# Altium footprint library WE-SHC.PcbLib: 139 footprints (part 1 of 10)
Each footprint in its own frame and in the unit in brackets; x right, y up, seen from the top. Pads: shape width x height; smd on the part's side, far side on the other; paste and mask are expansions set on the pad; w line width, h text height; cw(c..) or ccw(c..) is an arc to the next point about the centre after c.
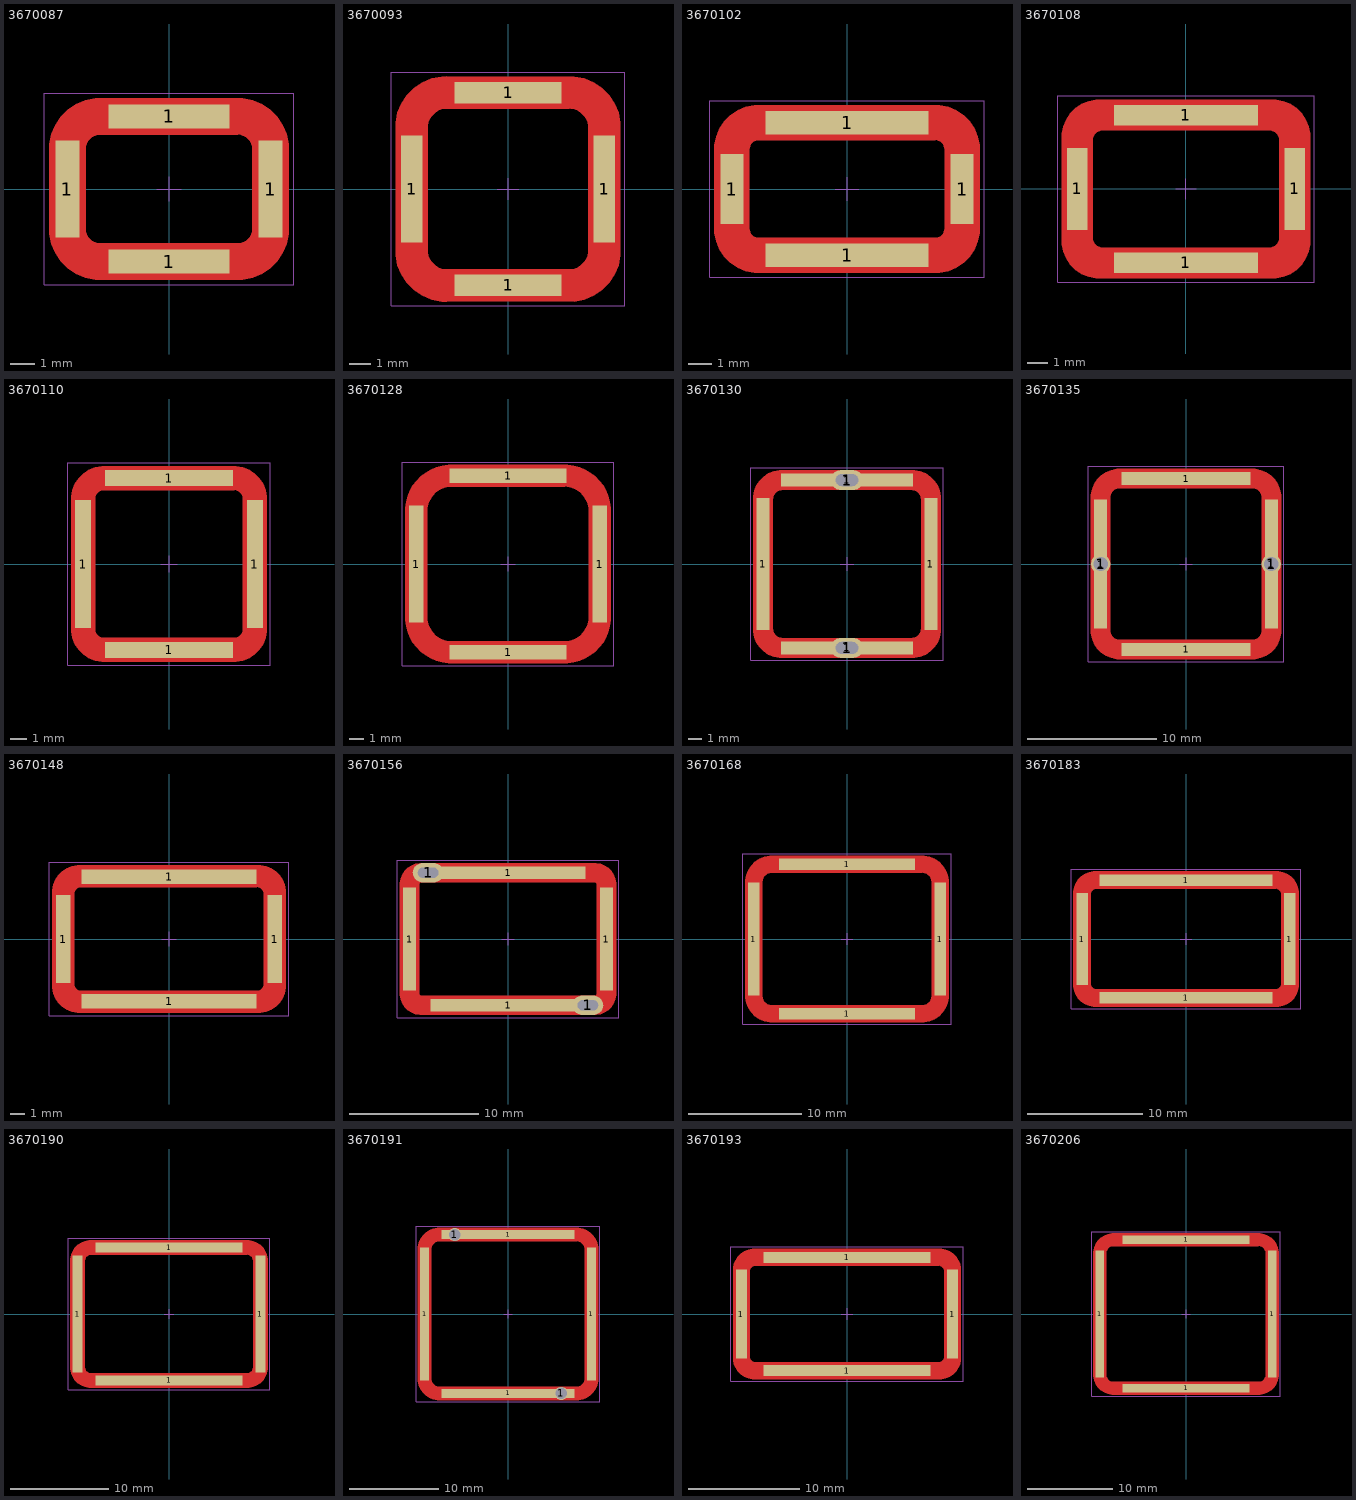
[diagram p0: the footprints below, top view; thin cyan lines are the x and y axes]

## 3670087 [mm] "Shielding Cabinet, SMT Frame Seamless, 8.7x6.3x3mm"
height 3
pads (4):
  rect 1x4 smd paste-2539.97 mask-2222: 1(-4.2,0) 1(4.2,0)
  rect 5x1 smd paste-2539.97 mask-2222: 1(0,-3) 1(0,3)
Top Layer:
  region: -4.95,-0.25 -4.95,-1.65 -4.95,-1.857 -4.869,-2.263 -4.711,-2.645 -4.481,-2.989 -4.189,-3.281 -3.845,-3.511 -3.463,-3.669 -3.057,-3.75 -2.85,-3.75 2.85,-3.75 3.057,-3.75 3.463,-3.669 3.845,-3.511 4.189,-3.281 4.481,-2.989 4.711,-2.645 4.869,-2.263 4.95,-1.857 4.95,-1.65 4.95,-0.25 3.45,-0.25 3.45,-1.65 3.438,-1.767 3.349,-1.983 3.183,-2.149 2.967,-2.238 2.85,-2.25 -2.85,-2.25 -2.967,-2.238 -3.183,-2.149 -3.349,-1.983 -3.438,-1.767 -3.45,-1.65 -3.45,-0.25
  region: -4.95,-1 -4.95,1.65 -4.95,1.857 -4.869,2.263 -4.711,2.645 -4.481,2.989 -4.189,3.281 -3.845,3.511 -3.463,3.669 -3.057,3.75 -2.85,3.75 2.85,3.75 3.057,3.75 3.463,3.669 3.845,3.511 4.189,3.281 4.481,2.989 4.711,2.645 4.869,2.263 4.95,1.857 4.95,1.65 4.95,-1 3.45,-1 3.45,1.65 3.438,1.767 3.349,1.983 3.183,2.149 2.967,2.238 2.85,2.25 -2.85,2.25 -2.967,2.238 -3.183,2.149 -3.349,1.983 -3.438,1.767 -3.45,1.65 -3.45,-1
Top Paste:
  region: -4.95,0.25 -4.95,1.65 -4.95,1.857 -4.869,2.263 -4.711,2.645 -4.481,2.989 -4.189,3.281 -3.845,3.511 -3.463,3.669 -3.057,3.75 -2.85,3.75 2.85,3.75 3.057,3.75 3.463,3.669 3.845,3.511 4.189,3.281 4.481,2.989 4.711,2.645 4.869,2.263 4.95,1.857 4.95,1.65 4.95,0.25 3.45,0.25 3.45,1.65 3.438,1.767 3.349,1.983 3.183,2.149 2.967,2.238 2.85,2.25 -2.85,2.25 -2.967,2.238 -3.183,2.149 -3.349,1.983 -3.438,1.767 -3.45,1.65 -3.45,0.25
  region: -4.95,-0.25 -4.95,-1.65 -4.95,-1.857 -4.869,-2.263 -4.711,-2.645 -4.481,-2.989 -4.189,-3.281 -3.845,-3.511 -3.463,-3.669 -3.057,-3.75 -2.85,-3.75 2.85,-3.75 3.057,-3.75 3.463,-3.669 3.845,-3.511 4.189,-3.281 4.481,-2.989 4.711,-2.645 4.869,-2.263 4.95,-1.857 4.95,-1.65 4.95,-0.25 3.45,-0.25 3.45,-1.65 3.438,-1.767 3.349,-1.983 3.183,-2.149 2.967,-2.238 2.85,-2.25 -2.85,-2.25 -2.967,-2.238 -3.183,-2.149 -3.349,-1.983 -3.438,-1.767 -3.45,-1.65 -3.45,-0.25
Assembly Notes:
  text "recommended tin paste thickness=0.5mm / customer to define the final stencil gap" at -4.45,-5.25 h0.3
Top Component Outline:
  lines w0.1: -4.35,-1.65 ccw(c-2.85,-1.65) -2.85,-3.15 2.85,-3.15 ccw(c2.85,-1.65) 4.35,-1.65 4.35,1.65 ccw(c2.85,1.65) 2.85,3.15 -2.85,3.15 ccw(c-2.85,1.65) -4.35,1.65 -4.35,-1.65
Top 3D Body:
  lines w0.1: -4.35,-1.65 ccw(c-2.85,-1.65) -2.85,-3.15 2.85,-3.15 ccw(c2.85,-1.65) 4.35,-1.65 4.35,1.65 ccw(c2.85,1.65) 2.85,3.15 -2.85,3.15 ccw(c-2.85,1.65) -4.35,1.65 -4.35,-1.65
Top Courtyard:
  lines w0.05: -5.15,-3.95 5.15,-3.95 5.15,3.95 -5.15,3.95 -5.15,-3.95
Top Component Center:
  lines w0.05: -0.5,0 0.5,0 ; 0,-0.5 0,0.5
Top Designator (Mech19):
  text ".Designator" at -7.498,-0.5 h1.5
3D body "3670087.stp": height 3, standoff 0, extent -4.35,-3.15 4.35,3.15

## 3670093 [mm] "Shielding Cabinet, SMT Frame Seamless, 9.3x9.3x5mm"
height 5
pads (4):
  rect 1x5 smd paste-2539.97 mask-2222: 1(-4.5,0) 1(4.5,0)
  rect 5x1 smd paste-2539.97 mask-2222: 1(0,-4.5) 1(0,4.5)
Top Layer:
  region: -5.25,-1 -5.25,2.85 -5.25,3.086 -5.158,3.55 -4.977,3.987 -4.714,4.38 -4.38,4.714 -3.987,4.977 -3.55,5.158 -3.086,5.25 -2.85,5.25 2.85,5.25 3.086,5.25 3.55,5.158 3.987,4.977 4.38,4.714 4.714,4.38 4.977,3.987 5.158,3.55 5.25,3.086 5.25,2.85 5.25,-1 3.75,-1 3.75,2.85 3.746,2.938 3.711,3.111 3.644,3.274 3.546,3.421 3.421,3.546 3.274,3.644 3.111,3.711 2.938,3.746 2.85,3.75 -2.85,3.75 -2.938,3.746 -3.111,3.711 -3.274,3.644 -3.421,3.546 -3.546,3.421 -3.644,3.274 -3.711,3.111 -3.746,2.938 -3.75,2.85 -3.75,-1
  region: -5.25,-0.25 -5.25,-2.85 -5.25,-3.086 -5.158,-3.55 -4.977,-3.987 -4.714,-4.38 -4.38,-4.714 -3.987,-4.977 -3.55,-5.158 -3.086,-5.25 -2.85,-5.25 2.85,-5.25 3.086,-5.25 3.55,-5.158 3.987,-4.977 4.38,-4.714 4.714,-4.38 4.977,-3.987 5.158,-3.55 5.25,-3.086 5.25,-2.85 5.25,-0.25 3.75,-0.25 3.75,-2.85 3.746,-2.938 3.711,-3.111 3.644,-3.274 3.546,-3.421 3.421,-3.546 3.274,-3.644 3.111,-3.711 2.938,-3.746 2.85,-3.75 -2.85,-3.75 -2.938,-3.746 -3.111,-3.711 -3.274,-3.644 -3.421,-3.546 -3.546,-3.421 -3.644,-3.274 -3.711,-3.111 -3.746,-2.938 -3.75,-2.85 -3.75,-0.25
Top Paste:
  region: -5.25,-0.25 -5.25,-2.85 -5.25,-3.086 -5.158,-3.55 -4.977,-3.987 -4.714,-4.38 -4.38,-4.714 -3.987,-4.977 -3.55,-5.158 -3.086,-5.25 -2.85,-5.25 2.85,-5.25 3.086,-5.25 3.55,-5.158 3.987,-4.977 4.38,-4.714 4.714,-4.38 4.977,-3.987 5.158,-3.55 5.25,-3.086 5.25,-2.85 5.25,-0.25 3.75,-0.25 3.75,-2.85 3.746,-2.938 3.711,-3.111 3.644,-3.274 3.546,-3.421 3.421,-3.546 3.274,-3.644 3.111,-3.711 2.938,-3.746 2.85,-3.75 -2.85,-3.75 -2.938,-3.746 -3.111,-3.711 -3.274,-3.644 -3.421,-3.546 -3.546,-3.421 -3.644,-3.274 -3.711,-3.111 -3.746,-2.938 -3.75,-2.85 -3.75,-0.25
  region: -5.25,0.25 -5.25,2.85 -5.25,3.086 -5.158,3.55 -4.977,3.987 -4.714,4.38 -4.38,4.714 -3.987,4.977 -3.55,5.158 -3.086,5.25 -2.85,5.25 2.85,5.25 3.086,5.25 3.55,5.158 3.987,4.977 4.38,4.714 4.714,4.38 4.977,3.987 5.158,3.55 5.25,3.086 5.25,2.85 5.25,0.25 3.75,0.25 3.75,2.85 3.746,2.938 3.711,3.111 3.644,3.274 3.546,3.421 3.421,3.546 3.274,3.644 3.111,3.711 2.938,3.746 2.85,3.75 -2.85,3.75 -2.938,3.746 -3.111,3.711 -3.274,3.644 -3.421,3.546 -3.546,3.421 -3.644,3.274 -3.711,3.111 -3.746,2.938 -3.75,2.85 -3.75,0.25
Assembly Notes:
  text "recommended tin paste thickness=0.5mm / customer to define the final stencil gap" at -4.75,-6.65 h0.3
Top Component Outline:
  lines w0.1: -4.65,-2.9 ccw(c-2.9,-2.9) -2.9,-4.65 2.9,-4.65 ccw(c2.9,-2.9) 4.65,-2.9 4.65,2.9 ccw(c2.9,2.9) 2.9,4.65 -2.9,4.65 ccw(c-2.9,2.9) -4.65,2.9 -4.65,-2.9
Top 3D Body:
  lines w0.1: -4.65,-2.9 ccw(c-2.9,-2.9) -2.9,-4.65 2.9,-4.65 ccw(c2.9,-2.9) 4.65,-2.9 4.65,2.9 ccw(c2.9,2.9) 2.9,4.65 -2.9,4.65 ccw(c-2.9,2.9) -4.65,2.9 -4.65,-2.9
Top Courtyard:
  lines w0.05: -5.45,-5.45 5.45,-5.45 5.45,5.45 -5.45,5.45 -5.45,-5.45
Top Component Center:
  lines w0.05: -0.5,0 0.5,0 ; 0,-0.5 0,0.5
Top Designator (Mech19):
  text ".Designator" at -7.498,-0.5 h1.5
3D body "3670093.stp": height 5, standoff 0, extent -4.65,-4.65 4.65,4.65

## 3670102 [mm] "Shielding Cabinet, SMT Frame Seamless, 10.2x6x3mm"
height 3
pads (4):
  rect 1x3 smd paste-2539.97 mask-2222: 1(-4.95,0) 1(4.95,0)
  rect 7x1 smd paste-2539.97 mask-2222: 1(0,-2.85) 1(0,2.85)
Top Layer:
  region: -5.7,-1 -5.7,1.7 -5.7,1.887 -5.627,2.254 -5.484,2.6 -5.276,2.911 -5.011,3.176 -4.7,3.384 -4.354,3.527 -3.987,3.6 -3.8,3.6 3.8,3.6 3.987,3.6 4.354,3.527 4.7,3.384 5.011,3.176 5.276,2.911 5.484,2.6 5.627,2.254 5.7,1.887 5.7,1.7 5.7,-1 4.2,-1 4.2,1.7 4.192,1.778 4.133,1.922 4.022,2.033 3.878,2.092 3.8,2.1 -3.8,2.1 -3.878,2.092 -4.022,2.033 -4.133,1.922 -4.192,1.778 -4.2,1.7 -4.2,-1
  region: -5.7,-0.25 -5.7,-1.7 -5.7,-1.887 -5.627,-2.254 -5.484,-2.6 -5.276,-2.911 -5.011,-3.176 -4.7,-3.384 -4.354,-3.527 -3.987,-3.6 -3.8,-3.6 3.8,-3.6 3.987,-3.6 4.354,-3.527 4.7,-3.384 5.011,-3.176 5.276,-2.911 5.484,-2.6 5.627,-2.254 5.7,-1.887 5.7,-1.7 5.7,-0.25 4.2,-0.25 4.2,-1.7 4.192,-1.778 4.133,-1.922 4.022,-2.033 3.878,-2.092 3.8,-2.1 -3.8,-2.1 -3.878,-2.092 -4.022,-2.033 -4.133,-1.922 -4.192,-1.778 -4.2,-1.7 -4.2,-0.25
Top Paste:
  region: -5.7,-0.25 -5.7,-1.7 -5.7,-1.887 -5.627,-2.254 -5.484,-2.6 -5.276,-2.911 -5.011,-3.176 -4.7,-3.384 -4.354,-3.527 -3.987,-3.6 -3.8,-3.6 3.8,-3.6 3.987,-3.6 4.354,-3.527 4.7,-3.384 5.011,-3.176 5.276,-2.911 5.484,-2.6 5.627,-2.254 5.7,-1.887 5.7,-1.7 5.7,-0.25 4.2,-0.25 4.2,-1.7 4.192,-1.778 4.133,-1.922 4.022,-2.033 3.878,-2.092 3.8,-2.1 -3.8,-2.1 -3.878,-2.092 -4.022,-2.033 -4.133,-1.922 -4.192,-1.778 -4.2,-1.7 -4.2,-0.25
  region: -5.7,0.25 -5.7,1.7 -5.7,1.887 -5.627,2.254 -5.484,2.6 -5.276,2.911 -5.011,3.176 -4.7,3.384 -4.354,3.527 -3.987,3.6 -3.8,3.6 3.8,3.6 3.987,3.6 4.354,3.527 4.7,3.384 5.011,3.176 5.276,2.911 5.484,2.6 5.627,2.254 5.7,1.887 5.7,1.7 5.7,0.25 4.2,0.25 4.2,1.7 4.192,1.778 4.133,1.922 4.022,2.033 3.878,2.092 3.8,2.1 -3.8,2.1 -3.878,2.092 -4.022,2.033 -4.133,1.922 -4.192,1.778 -4.2,1.7 -4.2,0.25
Assembly Notes:
  text "recommended tin paste thickness=0.1mm / customer to define the final stencil gap" at -5.9,-5.3 h0.4
Top Component Outline:
  lines w0.1: -5.1,-1.75 ccw(c-3.85,-1.75) -3.85,-3 3.85,-3 ccw(c3.85,-1.75) 5.1,-1.75 5.1,1.75 ccw(c3.85,1.75) 3.85,3 -3.85,3 ccw(c-3.85,1.75) -5.1,1.75 -5.1,-1.75
Top 3D Body:
  lines w0.1: -5.1,-1.75 ccw(c-3.85,-1.75) -3.85,-3 3.85,-3 ccw(c3.85,-1.75) 5.1,-1.75 5.1,1.75 ccw(c3.85,1.75) 3.85,3 -3.85,3 ccw(c-3.85,1.75) -5.1,1.75 -5.1,-1.75
Top Courtyard:
  lines w0.05: -5.9,-3.8 5.9,-3.8 5.9,3.8 -5.9,3.8 -5.9,-3.8
Top Component Center:
  lines w0.05: -0.5,0 0.5,0 ; 0,-0.5 0,0.5
Top Designator (Mech19):
  text ".Designator" at -7.498,-0.5 h1.5
3D body "3670102.stp": height 3, standoff 0, extent -5.1,-3 5.1,3

## 3670108 [mm] "Shielding Cabinet, SMT Frame Seamless, 10.8x7.4x2mm"
height 2
pads (4):
  rect 1x4 smd paste-2539.97 mask-2222: 1(-5.3,0) 1(5.3,0)
  rect 7x1 smd paste-2539.97 mask-2222: 1(0,-3.6) 1(0,3.6)
Top Layer:
  region: -6.05,-0.25 -6.05,-2.5 -6.05,-2.682 -5.979,-3.04 -5.839,-3.376 -5.637,-3.679 -5.379,-3.937 -5.076,-4.139 -4.74,-4.279 -4.382,-4.35 -4.2,-4.35 4.2,-4.35 4.382,-4.35 4.74,-4.279 5.076,-4.139 5.379,-3.937 5.637,-3.679 5.839,-3.376 5.979,-3.04 6.05,-2.682 6.05,-2.5 6.05,-0.25 4.55,-0.25 4.55,-2.387 4.541,-2.478 4.472,-2.644 4.344,-2.772 4.178,-2.841 4.088,-2.85 -4.088,-2.85 -4.178,-2.841 -4.344,-2.772 -4.472,-2.644 -4.541,-2.478 -4.55,-2.387 -4.55,-0.25
  region: -6.05,-0.925 -6.05,2.5 -6.05,2.682 -5.979,3.04 -5.839,3.376 -5.637,3.679 -5.379,3.937 -5.076,4.139 -4.74,4.279 -4.382,4.35 -4.2,4.35 4.2,4.35 4.382,4.35 4.74,4.279 5.076,4.139 5.379,3.937 5.637,3.679 5.839,3.376 5.979,3.04 6.05,2.682 6.05,2.5 6.05,-0.925 4.55,-0.925 4.55,2.387 4.541,2.478 4.472,2.644 4.344,2.772 4.178,2.841 4.088,2.85 -4.088,2.85 -4.178,2.841 -4.344,2.772 -4.472,2.644 -4.541,2.478 -4.55,2.387 -4.55,-0.925
Top Paste:
  region: -6.05,0.25 -6.05,2.5 -6.05,2.682 -5.979,3.04 -5.839,3.376 -5.637,3.679 -5.379,3.937 -5.076,4.139 -4.74,4.279 -4.382,4.35 -4.2,4.35 4.2,4.35 4.382,4.35 4.74,4.279 5.076,4.139 5.379,3.937 5.637,3.679 5.839,3.376 5.979,3.04 6.05,2.682 6.05,2.5 6.05,0.25 4.55,0.25 4.55,2.387 4.541,2.478 4.472,2.644 4.344,2.772 4.178,2.841 4.088,2.85 -4.088,2.85 -4.178,2.841 -4.344,2.772 -4.472,2.644 -4.541,2.478 -4.55,2.387 -4.55,0.25
  region: -6.05,-0.25 -6.05,-2.5 -6.05,-2.682 -5.979,-3.04 -5.839,-3.376 -5.637,-3.679 -5.379,-3.937 -5.076,-4.139 -4.74,-4.279 -4.382,-4.35 -4.2,-4.35 4.2,-4.35 4.382,-4.35 4.74,-4.279 5.076,-4.139 5.379,-3.937 5.637,-3.679 5.839,-3.376 5.979,-3.04 6.05,-2.682 6.05,-2.5 6.05,-0.25 4.55,-0.25 4.55,-2.387 4.541,-2.478 4.472,-2.644 4.344,-2.772 4.178,-2.841 4.088,-2.85 -4.088,-2.85 -4.178,-2.841 -4.344,-2.772 -4.472,-2.644 -4.541,-2.478 -4.55,-2.387 -4.55,-0.25
Assembly Notes:
  text "recommended tin paste thickness=0.5mm / customer to define the final stencil gap" at -6.25,-5.95 h0.4
Top Component Outline:
  lines w0.1: -5.4,-2.45 ccw(c-4.15,-2.45) -4.15,-3.7 4.15,-3.7 ccw(c4.15,-2.45) 5.4,-2.45 5.4,2.45 ccw(c4.15,2.45) 4.15,3.7 -4.15,3.7 ccw(c-4.15,2.45) -5.4,2.45 -5.4,-2.45
Top 3D Body:
  lines w0.1: -5.4,-2.45 ccw(c-4.15,-2.45) -4.15,-3.7 4.15,-3.7 ccw(c4.15,-2.45) 5.4,-2.45 5.4,2.45 ccw(c4.15,2.45) 4.15,3.7 -4.15,3.7 ccw(c-4.15,2.45) -5.4,2.45 -5.4,-2.45
Top Courtyard:
  lines w0.05: -6.25,-4.55 6.25,-4.55 6.25,4.55 -6.25,4.55 -6.25,-4.55
Top Component Center:
  lines w0.05: -0.5,0 0.5,0 ; 0,-0.5 0,0.5
Top Designator (Mech19):
  text ".Designator" at -7.498,-0.5 h1.5
3D body "3670108.stp": height 2, standoff 0, extent -5.4,-3.7 5.4,3.7

## 3670110 [mm] "Shielding Cabinet, SMT Frame Seamless, 11x11x2.8mm"
height 2.8
pads (4):
  rect 1x8 smd paste-2539.97 mask-2222: 1(-5.35,0) 1(5.35,0)
  rect 8x1 smd paste-2539.97 mask-2222: 1(0,-5.35) 1(0,5.35)
Top Layer:
  region: -6.1,-0.25 -6.1,-4 -6.1,-4.207 -6.019,-4.613 -5.861,-4.995 -5.631,-5.339 -5.339,-5.631 -4.995,-5.861 -4.613,-6.019 -4.207,-6.1 -4,-6.1 4,-6.1 4.207,-6.1 4.613,-6.019 4.995,-5.861 5.339,-5.631 5.631,-5.339 5.861,-4.995 6.019,-4.613 6.1,-4.207 6.1,-4 6.1,-0.25 4.6,-0.25 4.6,-4.075 4.59,-4.177 4.512,-4.367 4.367,-4.512 4.177,-4.59 4.075,-4.6 -4.075,-4.6 -4.177,-4.59 -4.367,-4.512 -4.512,-4.367 -4.59,-4.177 -4.6,-4.075 -4.6,-0.25
  region: -6.1,-1.05 -6.1,4 -6.1,4.207 -6.019,4.613 -5.861,4.995 -5.631,5.339 -5.339,5.631 -4.995,5.861 -4.613,6.019 -4.207,6.1 -4,6.1 4,6.1 4.207,6.1 4.613,6.019 4.995,5.861 5.339,5.631 5.631,5.339 5.861,4.995 6.019,4.613 6.1,4.207 6.1,4 6.1,-1.05 4.6,-1.05 4.6,4.075 4.59,4.177 4.512,4.367 4.367,4.512 4.177,4.59 4.075,4.6 -4.075,4.6 -4.177,4.59 -4.367,4.512 -4.512,4.367 -4.59,4.177 -4.6,4.075 -4.6,-1.05
Top Paste:
  region: -6.1,0.25 -6.1,4 -6.1,4.207 -6.019,4.613 -5.861,4.995 -5.631,5.339 -5.339,5.631 -4.995,5.861 -4.613,6.019 -4.207,6.1 -4,6.1 4,6.1 4.207,6.1 4.613,6.019 4.995,5.861 5.339,5.631 5.631,5.339 5.861,4.995 6.019,4.613 6.1,4.207 6.1,4 6.1,0.25 4.6,0.25 4.6,4.075 4.59,4.177 4.512,4.367 4.367,4.512 4.177,4.59 4.075,4.6 -4.075,4.6 -4.177,4.59 -4.367,4.512 -4.512,4.367 -4.59,4.177 -4.6,4.075 -4.6,0.25
  region: -6.1,-0.25 -6.1,-4 -6.1,-4.207 -6.019,-4.613 -5.861,-4.995 -5.631,-5.339 -5.339,-5.631 -4.995,-5.861 -4.613,-6.019 -4.207,-6.1 -4,-6.1 4,-6.1 4.207,-6.1 4.613,-6.019 4.995,-5.861 5.339,-5.631 5.631,-5.339 5.861,-4.995 6.019,-4.613 6.1,-4.207 6.1,-4 6.1,-0.25 4.6,-0.25 4.6,-4.075 4.59,-4.177 4.512,-4.367 4.367,-4.512 4.177,-4.59 4.075,-4.6 -4.075,-4.6 -4.177,-4.59 -4.367,-4.512 -4.512,-4.367 -4.59,-4.177 -4.6,-4.075 -4.6,-0.25
Assembly Notes:
  text "recommended tin paste thickness=0.5mm / customer to define the final stencil gap" at -6.3,-7.7 h0.4
Top Component Outline:
  lines w0.1: -5.5,-4 ccw(c-4,-4) -4,-5.5 4,-5.5 ccw(c4,-4) 5.5,-4 5.5,4 ccw(c4,4) 4,5.5 -4,5.5 ccw(c-4,4) -5.5,4 -5.5,-4
Top 3D Body:
  lines w0.1: -5.5,-4 ccw(c-4,-4) -4,-5.5 4,-5.5 ccw(c4,-4) 5.5,-4 5.5,4 ccw(c4,4) 4,5.5 -4,5.5 ccw(c-4,4) -5.5,4 -5.5,-4
Top Courtyard:
  lines w0.05: -6.3,-6.3 6.3,-6.3 6.3,6.3 -6.3,6.3 -6.3,-6.3
Top Component Center:
  lines w0.05: -0.5,0 0.5,0 ; 0,-0.5 0,0.5
Top Designator (Mech19):
  text ".Designator" at -7.498,-0.5 h1.5
3D body "3670110.stp": height 2.8, standoff 0, extent -5.5,-5.5 5.5,5.5

## 3670128 [mm] "Shielding Cabinet, SMT Frame Seamless, 12.8x12.3x7.5mm"
height 7.5
pads (4):
  rect 1x8 smd paste-2539.97 mask-2222: 1(-6.3,0) 1(6.3,0)
  rect 8x1 smd paste-2539.97 mask-2222: 1(0,-6.05) 1(0,6.05)
Top Layer:
  region: -7.05,-0.25 -7.05,-3.65 -7.05,-3.856 -6.996,-4.266 -6.889,-4.665 -6.731,-5.046 -6.525,-5.404 -6.273,-5.731 -5.981,-6.023 -5.654,-6.275 -5.296,-6.481 -4.915,-6.639 -4.516,-6.746 -4.106,-6.8 -3.9,-6.8 3.9,-6.8 4.106,-6.8 4.516,-6.746 4.915,-6.639 5.296,-6.481 5.654,-6.275 5.981,-6.023 6.273,-5.731 6.525,-5.404 6.731,-5.046 6.889,-4.665 6.996,-4.266 7.05,-3.856 7.05,-3.65 7.05,-0.25 5.55,-0.25 5.55,-3.65 5.542,-3.812 5.479,-4.129 5.355,-4.428 5.175,-4.697 4.947,-4.925 4.678,-5.105 4.379,-5.229 4.062,-5.292 3.9,-5.3 -3.9,-5.3 -4.062,-5.292 -4.379,-5.229 -4.678,-5.105 -4.947,-4.925 -5.175,-4.697 -5.355,-4.428 -5.479,-4.129 -5.542,-3.812 -5.55,-3.65 -5.55,-0.25
  region: -7.05,-1 -7.05,3.65 -7.05,3.856 -6.996,4.266 -6.889,4.665 -6.731,5.046 -6.525,5.404 -6.273,5.731 -5.981,6.023 -5.654,6.275 -5.296,6.481 -4.915,6.639 -4.516,6.746 -4.106,6.8 -3.9,6.8 3.9,6.8 4.106,6.8 4.516,6.746 4.915,6.639 5.296,6.481 5.654,6.275 5.981,6.023 6.273,5.731 6.525,5.404 6.731,5.046 6.889,4.665 6.996,4.266 7.05,3.856 7.05,3.65 7.05,-1 5.55,-1 5.55,3.65 5.542,3.812 5.479,4.129 5.355,4.428 5.175,4.697 4.947,4.925 4.678,5.105 4.379,5.229 4.062,5.292 3.9,5.3 -3.9,5.3 -4.062,5.292 -4.379,5.229 -4.678,5.105 -4.947,4.925 -5.175,4.697 -5.355,4.428 -5.479,4.129 -5.542,3.812 -5.55,3.65 -5.55,-1
Top Paste:
  drawing of 3 lines, arcs and shapes, not listed
Assembly Notes:
  text "recommended tin paste thickness=0.1mm / customer to define the final stencil gap" at -6.2,-8.5 h0.4
Top Component Outline:
  lines w0.1: -6.4,-3.9 -6.4,3.65 cw(c-3.9,3.65) -3.9,6.15 3.9,6.15 cw(c3.9,3.65) 6.4,3.65 6.4,-3.9 ; -6.4,-3.65 ccw(c-3.9,-3.65) -3.9,-6.15 3.9,-6.15 ccw(c3.9,-3.65) 6.4,-3.65
Top 3D Body:
  lines w0.1: -6.4,-3.9 -6.4,3.65 cw(c-3.9,3.65) -3.9,6.15 3.9,6.15 cw(c3.9,3.65) 6.4,3.65 6.4,-3.9 ; -6.4,-3.65 ccw(c-3.9,-3.65) -3.9,-6.15 3.9,-6.15 ccw(c3.9,-3.65) 6.4,-3.65
Top Courtyard:
  lines w0.05: -7.25,-7 -7.25,7 7.25,7 7.25,-7 -7.25,-7
Top Component Center:
  lines w0.05: -0.5,0 0.5,0 ; 0,-0.5 0,0.5
Top Designator (Mech19):
  text ".Designator" at -7.498,-0.5 h1.5
3D body "3670128.stp": height 7.5, standoff 0, extent -6.4,-6.15 6.4,6.15

## 3670130 [mm] "Shielding Cabinet, SMT Frame Seamless, 13x13x5mm"
height 5
pads (6):
  rect 1x10 smd paste-2539.97 mask-2222: 1(-6.35,0) 1(6.35,0)
  rect 10x1 smd paste-2539.97 mask-2222: 1(0,-6.35) 1(0,6.35)
  oval 2.5x1.5 hole 0.9 slot 1.7 at 0 deg: 1(0,-6.35) 1(0,6.35)
Top Layer:
  region: -7.1,-0.25 -7.1,-4.9 -7.1,-5.117 -7.015,-5.542 -6.85,-5.942 -6.609,-6.302 -6.302,-6.609 -5.942,-6.85 -5.542,-7.015 -5.117,-7.1 -4.9,-7.1 4.9,-7.1 5.117,-7.1 5.542,-7.015 5.942,-6.85 6.302,-6.609 6.609,-6.302 6.85,-5.942 7.015,-5.542 7.1,-5.117 7.1,-4.9 7.1,-0.25 5.6,-0.25 5.6,-4.9 5.597,-4.969 5.57,-5.103 5.517,-5.23 5.441,-5.344 5.344,-5.441 5.23,-5.517 5.103,-5.57 4.969,-5.597 4.9,-5.6 -4.9,-5.6 -4.969,-5.597 -5.103,-5.57 -5.23,-5.517 -5.344,-5.441 -5.441,-5.344 -5.517,-5.23 -5.57,-5.103 -5.597,-4.969 -5.6,-4.9 -5.6,-0.25
  region: -7.1,-1 -7.1,4.9 -7.1,5.117 -7.015,5.542 -6.85,5.942 -6.609,6.302 -6.302,6.609 -5.942,6.85 -5.542,7.015 -5.117,7.1 -4.9,7.1 4.9,7.1 5.117,7.1 5.542,7.015 5.942,6.85 6.302,6.609 6.609,6.302 6.85,5.942 7.015,5.542 7.1,5.117 7.1,4.9 7.1,-1 5.6,-1 5.6,4.9 5.597,4.969 5.57,5.103 5.517,5.23 5.441,5.344 5.344,5.441 5.23,5.517 5.103,5.57 4.969,5.597 4.9,5.6 -4.9,5.6 -4.969,5.597 -5.103,5.57 -5.23,5.517 -5.344,5.441 -5.441,5.344 -5.517,5.23 -5.57,5.103 -5.597,4.969 -5.6,4.9 -5.6,-1
Top Paste:
  region: -7.1,0.25 -7.1,4.9 -7.1,5.117 -7.015,5.542 -6.85,5.942 -6.609,6.302 -6.302,6.609 -5.942,6.85 -5.542,7.015 -5.117,7.1 -4.9,7.1 4.9,7.1 5.117,7.1 5.542,7.015 5.942,6.85 6.302,6.609 6.609,6.302 6.85,5.942 7.015,5.542 7.1,5.117 7.1,4.9 7.1,0.25 5.6,0.25 5.6,4.9 5.597,4.969 5.57,5.103 5.517,5.23 5.441,5.344 5.344,5.441 5.23,5.517 5.103,5.57 4.969,5.597 4.9,5.6 -4.9,5.6 -4.969,5.597 -5.103,5.57 -5.23,5.517 -5.344,5.441 -5.441,5.344 -5.517,5.23 -5.57,5.103 -5.597,4.969 -5.6,4.9 -5.6,0.25
  region: -7.1,-0.25 -7.1,-4.9 -7.1,-5.117 -7.015,-5.542 -6.85,-5.942 -6.609,-6.302 -6.302,-6.609 -5.942,-6.85 -5.542,-7.015 -5.117,-7.1 -4.9,-7.1 4.9,-7.1 5.117,-7.1 5.542,-7.015 5.942,-6.85 6.302,-6.609 6.609,-6.302 6.85,-5.942 7.015,-5.542 7.1,-5.117 7.1,-4.9 7.1,-0.25 5.6,-0.25 5.6,-4.9 5.597,-4.969 5.57,-5.103 5.517,-5.23 5.441,-5.344 5.344,-5.441 5.23,-5.517 5.103,-5.57 4.969,-5.597 4.9,-5.6 -4.9,-5.6 -4.969,-5.597 -5.103,-5.57 -5.23,-5.517 -5.344,-5.441 -5.441,-5.344 -5.517,-5.23 -5.57,-5.103 -5.597,-4.969 -5.6,-4.9 -5.6,-0.25
Assembly Notes:
  text "recommended tin paste thickness=0.5mm / customer to define the final stencil gap" at -5.9,-8.7 h0.4
Top Component Outline:
  lines w0.1: -6.5,-5 ccw(c-5,-5) -5,-6.5 5,-6.5 ccw(c5,-5) 6.5,-5 6.5,5 ccw(c5,5) 5,6.5 -5,6.5 ccw(c-5,5) -6.5,5 -6.5,-5
Top 3D Body:
  lines w0.1: -6.5,-5 ccw(c-5,-5) -5,-6.5 5,-6.5 ccw(c5,-5) 6.5,-5 6.5,5 ccw(c5,5) 5,6.5 -5,6.5 ccw(c-5,5) -6.5,5 -6.5,-5
Top Courtyard:
  lines w0.05: -7.3,-7.3 7.3,-7.3 7.3,7.3 -7.3,7.3 -7.3,-7.3
Top Component Center:
  lines w0.05: -0.5,0 0.5,0 ; 0,-0.5 0,0.5
Top Designator (Mech19):
  text ".Designator" at -7.498,-0.5 h1.5
3D body "3670130.stp": height 5, standoff -1, extent -6.5,-6.5 6.5,6.5

## 3670135 [mm] "Shielding Cabinet, SMT Frame Seamless, 13.5x13.5x5mm"
height 5
pads (6):
  rect 1x10 smd paste-2539.97 mask-2222: 1(-6.6,0) 1(6.6,0)
  round 1.5 hole 1.1: 1(-6.6,0) 1(6.6,0)
  rect 10x1 smd paste-2539.97 mask-2222: 1(0,-6.6) 1(0,6.6)
Top Layer:
  region: 7.35,-5.15 7.35,5.15 7.35,5.367 7.265,5.792 7.1,6.192 6.859,6.552 6.552,6.859 6.192,7.1 5.792,7.265 5.367,7.35 5.15,7.35 0.25,7.35 0.25,5.85 5.15,5.85 5.219,5.847 5.353,5.82 5.48,5.767 5.594,5.691 5.691,5.594 5.767,5.48 5.82,5.353 5.847,5.219 5.85,5.15 5.85,-5.15 5.847,-5.219 5.82,-5.353 5.767,-5.48 5.691,-5.594 5.594,-5.691 5.48,-5.767 5.353,-5.82 5.219,-5.847 5.15,-5.85 0.25,-5.85 0.25,-7.35 5.15,-7.35 5.367,-7.35 5.792,-7.265 6.192,-7.1 6.552,-6.859 6.859,-6.552 7.1,-6.192 7.265,-5.792 7.35,-5.367
  region: -7.35,-5.15 -7.35,5.15 -7.35,5.367 -7.265,5.792 -7.1,6.192 -6.859,6.552 -6.552,6.859 -6.192,7.1 -5.792,7.265 -5.367,7.35 -5.15,7.35 1,7.35 1,5.85 -5.15,5.85 -5.219,5.847 -5.353,5.82 -5.48,5.767 -5.594,5.691 -5.691,5.594 -5.767,5.48 -5.82,5.353 -5.847,5.219 -5.85,5.15 -5.85,-5.15 -5.847,-5.219 -5.82,-5.353 -5.767,-5.48 -5.691,-5.594 -5.594,-5.691 -5.48,-5.767 -5.353,-5.82 -5.219,-5.847 -5.15,-5.85 1,-5.85 1,-7.35 -5.15,-7.35 -5.367,-7.35 -5.792,-7.265 -6.192,-7.1 -6.552,-6.859 -6.859,-6.552 -7.1,-6.192 -7.265,-5.792 -7.35,-5.367
Top Paste:
  region: -7.35,-5.15 -7.35,5.15 -7.35,5.367 -7.265,5.792 -7.1,6.192 -6.859,6.552 -6.552,6.859 -6.192,7.1 -5.792,7.265 -5.367,7.35 -5.15,7.35 -0.25,7.35 -0.25,5.85 -5.15,5.85 -5.219,5.847 -5.353,5.82 -5.48,5.767 -5.594,5.691 -5.691,5.594 -5.767,5.48 -5.82,5.353 -5.847,5.219 -5.85,5.15 -5.85,-5.15 -5.847,-5.219 -5.82,-5.353 -5.767,-5.48 -5.691,-5.594 -5.594,-5.691 -5.48,-5.767 -5.353,-5.82 -5.219,-5.847 -5.15,-5.85 -0.25,-5.85 -0.25,-7.35 -5.15,-7.35 -5.367,-7.35 -5.792,-7.265 -6.192,-7.1 -6.552,-6.859 -6.859,-6.552 -7.1,-6.192 -7.265,-5.792 -7.35,-5.367
  region: 7.35,-5.15 7.35,5.15 7.35,5.367 7.265,5.792 7.1,6.192 6.859,6.552 6.552,6.859 6.192,7.1 5.792,7.265 5.367,7.35 5.15,7.35 0.25,7.35 0.25,5.85 5.15,5.85 5.219,5.847 5.353,5.82 5.48,5.767 5.594,5.691 5.691,5.594 5.767,5.48 5.82,5.353 5.847,5.219 5.85,5.15 5.85,-5.15 5.847,-5.219 5.82,-5.353 5.767,-5.48 5.691,-5.594 5.594,-5.691 5.48,-5.767 5.353,-5.82 5.219,-5.847 5.15,-5.85 0.25,-5.85 0.25,-7.35 5.15,-7.35 5.367,-7.35 5.792,-7.265 6.192,-7.1 6.552,-6.859 6.859,-6.552 7.1,-6.192 7.265,-5.792 7.35,-5.367
Assembly Notes:
  text "recommended tin paste thickness=0.5mm / customer to define the final stencil gap" at -5.95,-9.05 h0.4
Top Component Outline:
  lines w0.1: -6.75,-5.25 ccw(c-5.25,-5.25) -5.25,-6.75 5.25,-6.75 ccw(c5.25,-5.25) 6.75,-5.25 6.75,5.25 ccw(c5.25,5.25) 5.25,6.75 -5.25,6.75 ccw(c-5.25,5.25) -6.75,5.25 -6.75,-5.25
Top 3D Body:
  lines w0.1: -6.75,-5.25 ccw(c-5.25,-5.25) -5.25,-6.75 5.25,-6.75 ccw(c5.25,-5.25) 6.75,-5.25 6.75,5.25 ccw(c5.25,5.25) 5.25,6.75 -5.25,6.75 ccw(c-5.25,5.25) -6.75,5.25 -6.75,-5.25
Top Courtyard:
  lines w0.05: -7.55,-7.55 -7.55,7.55 7.55,7.55 7.55,-7.55 -7.55,-7.55
Top Component Center:
  lines w0.05: -0.5,0 0.5,0 ; 0,-0.5 0,0.5
Top Designator (Mech19):
  text ".Designator" at -7.498,-0.5 h1.5
3D body "3670135.stp": height 5, standoff -1, extent -6.75,-6.75 6.75,6.75

## 3670148 [mm] "Shielding Cabinet, SMT Frame Seamless, 14.8x8.9x2mm"
height 2
pads (4):
  rect 1x6 smd paste-2539.97 mask-2222: 1(-7.25,0) 1(7.25,0)
  rect 12x1 smd paste-2539.97 mask-2222: 1(0,-4.275) 1(0,4.275)
Top Layer:
  region: -8,-0.25 -8,-3.15 -8,-3.337 -7.927,-3.704 -7.784,-4.05 -7.576,-4.361 -7.311,-4.626 -7,-4.834 -6.654,-4.977 -6.287,-5.05 -6.1,-5.05 6.1,-5.05 6.287,-5.05 6.654,-4.977 7,-4.834 7.311,-4.626 7.576,-4.361 7.784,-4.05 7.927,-3.704 8,-3.337 8,-3.15 8,-0.25 6.5,-0.25 6.5,-3.075 6.491,-3.168 6.42,-3.339 6.289,-3.47 6.118,-3.541 6.025,-3.55 -6.025,-3.55 -6.118,-3.541 -6.289,-3.47 -6.42,-3.339 -6.491,-3.168 -6.5,-3.075 -6.5,-0.25
  region: -8,-1 -8,3.15 -8,3.337 -7.927,3.704 -7.784,4.05 -7.576,4.361 -7.311,4.626 -7,4.834 -6.654,4.977 -6.287,5.05 -6.1,5.05 6.1,5.05 6.287,5.05 6.654,4.977 7,4.834 7.311,4.626 7.576,4.361 7.784,4.05 7.927,3.704 8,3.337 8,3.15 8,-1 6.5,-1 6.5,3.075 6.491,3.168 6.42,3.339 6.289,3.47 6.118,3.541 6.025,3.55 -6.025,3.55 -6.118,3.541 -6.289,3.47 -6.42,3.339 -6.491,3.168 -6.5,3.075 -6.5,-1
Top Paste:
  region: -8,0.25 -8,3.15 -8,3.337 -7.927,3.704 -7.784,4.05 -7.576,4.361 -7.311,4.626 -7,4.834 -6.654,4.977 -6.287,5.05 -6.1,5.05 6.1,5.05 6.287,5.05 6.654,4.977 7,4.834 7.311,4.626 7.576,4.361 7.784,4.05 7.927,3.704 8,3.337 8,3.15 8,0.25 6.5,0.25 6.5,3.075 6.491,3.168 6.42,3.339 6.289,3.47 6.118,3.541 6.025,3.55 -6.025,3.55 -6.118,3.541 -6.289,3.47 -6.42,3.339 -6.491,3.168 -6.5,3.075 -6.5,0.25
  region: -8,-0.25 -8,-3.15 -8,-3.337 -7.927,-3.704 -7.784,-4.05 -7.576,-4.361 -7.311,-4.626 -7,-4.834 -6.654,-4.977 -6.287,-5.05 -6.1,-5.05 6.1,-5.05 6.287,-5.05 6.654,-4.977 7,-4.834 7.311,-4.626 7.576,-4.361 7.784,-4.05 7.927,-3.704 8,-3.337 8,-3.15 8,-0.25 6.5,-0.25 6.5,-3.075 6.491,-3.168 6.42,-3.339 6.289,-3.47 6.118,-3.541 6.025,-3.55 -6.025,-3.55 -6.118,-3.541 -6.289,-3.47 -6.42,-3.339 -6.491,-3.168 -6.5,-3.075 -6.5,-0.25
Assembly Notes:
  text "recommended tin paste thickness=0.5mm / customer to define the final stencil gap" at -5.7,-6.7 h0.4
Top Component Outline:
  lines w0.1: -7.4,-3.2 ccw(c-6.15,-3.2) -6.15,-4.45 6.15,-4.45 ccw(c6.15,-3.2) 7.4,-3.2 7.4,3.2 ccw(c6.15,3.2) 6.15,4.45 -6.15,4.45 ccw(c-6.15,3.2) -7.4,3.2 -7.4,-3.2
Top 3D Body:
  lines w0.1: -7.4,-3.2 ccw(c-6.15,-3.2) -6.15,-4.45 6.15,-4.45 ccw(c6.15,-3.2) 7.4,-3.2 7.4,3.2 ccw(c6.15,3.2) 6.15,4.45 -6.15,4.45 ccw(c-6.15,3.2) -7.4,3.2 -7.4,-3.2
Top Courtyard:
  lines w0.05: -8.2,-5.25 8.2,-5.25 8.2,5.25 -8.2,5.25 -8.2,-5.25
Top Component Center:
  lines w0.05: -0.5,0 0.5,0 ; 0,-0.5 0,0.5
Top Designator (Mech19):
  text ".Designator" at -7.498,-0.5 h1.5
3D body "3670148.stp": height 2, standoff 0, extent -7.4,-4.45 7.4,4.45

## 3670156 [mm] "Shielding Cabinet, SMT Frame Seamless, 15.6x10.6x3mm"
height 3
pads (6):
  rect 1x8 smd paste-2539.97 mask-2222: 1(-7.65,0) 1(7.65,0)
  oval 2.4x1.5 hole 0.8 slot 1.6 at 0 deg: 1(-6.2,5.15) 1(6.2,-5.15)
  rect 12x1 smd paste-2539.97 mask-2222: 1(0,-5.15) 1(0,5.15)
Top Layer:
  region: -8.4,-1 -8.4,4.2 -8.4,4.367 -8.335,4.696 -8.207,5.005 -8.02,5.284 -7.784,5.52 -7.505,5.707 -7.196,5.835 -6.867,5.9 -6.7,5.9 6.7,5.9 6.867,5.9 7.196,5.835 7.505,5.707 7.784,5.52 8.02,5.284 8.207,5.005 8.335,4.696 8.4,4.367 8.4,4.2 8.4,-1 6.9,-1 6.9,4.2 6.896,4.239 6.866,4.311 6.811,4.366 6.739,4.396 6.7,4.4 -6.7,4.4 -6.739,4.396 -6.811,4.366 -6.866,4.311 -6.896,4.239 -6.9,4.2 -6.9,-1
  region: -8.4,-0.25 -8.4,-4.2 -8.4,-4.367 -8.335,-4.696 -8.207,-5.005 -8.02,-5.284 -7.784,-5.52 -7.505,-5.707 -7.196,-5.835 -6.867,-5.9 -6.7,-5.9 6.7,-5.9 6.867,-5.9 7.196,-5.835 7.505,-5.707 7.784,-5.52 8.02,-5.284 8.207,-5.005 8.335,-4.696 8.4,-4.367 8.4,-4.2 8.4,-0.25 6.9,-0.25 6.9,-4.2 6.896,-4.239 6.866,-4.311 6.811,-4.366 6.739,-4.396 6.7,-4.4 -6.7,-4.4 -6.739,-4.396 -6.811,-4.366 -6.866,-4.311 -6.896,-4.239 -6.9,-4.2 -6.9,-0.25
Top Paste:
  region: -8.4,-0.25 -8.4,-4.2 -8.4,-4.367 -8.335,-4.696 -8.207,-5.005 -8.02,-5.284 -7.784,-5.52 -7.505,-5.707 -7.196,-5.835 -6.867,-5.9 -6.7,-5.9 6.7,-5.9 6.867,-5.9 7.196,-5.835 7.505,-5.707 7.784,-5.52 8.02,-5.284 8.207,-5.005 8.335,-4.696 8.4,-4.367 8.4,-4.2 8.4,-0.25 6.9,-0.25 6.9,-4.2 6.896,-4.239 6.866,-4.311 6.811,-4.366 6.739,-4.396 6.7,-4.4 -6.7,-4.4 -6.739,-4.396 -6.811,-4.366 -6.866,-4.311 -6.896,-4.239 -6.9,-4.2 -6.9,-0.25
  region: -8.4,0.25 -8.4,4.2 -8.4,4.367 -8.335,4.696 -8.207,5.005 -8.02,5.284 -7.784,5.52 -7.505,5.707 -7.196,5.835 -6.867,5.9 -6.7,5.9 6.7,5.9 6.867,5.9 7.196,5.835 7.505,5.707 7.784,5.52 8.02,5.284 8.207,5.005 8.335,4.696 8.4,4.367 8.4,4.2 8.4,0.25 6.9,0.25 6.9,4.2 6.896,4.239 6.866,4.311 6.811,4.366 6.739,4.396 6.7,4.4 -6.7,4.4 -6.739,4.396 -6.811,4.366 -6.866,4.311 -6.896,4.239 -6.9,4.2 -6.9,0.25
Assembly Notes:
  text "recommended tin paste thickness=0.5mm / customer to define the final stencil gap" at -6.05,-7.55 h0.4
Top Component Outline:
  lines w0.1: -7.8,-4.3 ccw(c-6.8,-4.3) -6.8,-5.3 6.8,-5.3 ccw(c6.8,-4.3) 7.8,-4.3 7.8,4.3 ccw(c6.8,4.3) 6.8,5.3 -6.8,5.3 ccw(c-6.8,4.3) -7.8,4.3 -7.8,-4.3
Top 3D Body:
  lines w0.1: -7.8,-4.3 ccw(c-6.8,-4.3) -6.8,-5.3 6.8,-5.3 ccw(c6.8,-4.3) 7.8,-4.3 7.8,4.3 ccw(c6.8,4.3) 6.8,5.3 -6.8,5.3 ccw(c-6.8,4.3) -7.8,4.3 -7.8,-4.3
Top Courtyard:
  lines w0.05: -8.6,-6.1 -8.6,6.1 8.6,6.1 8.6,-6.1 -8.6,-6.1
Top Component Center:
  lines w0.05: -0.5,0 0.5,0 ; 0,-0.5 0,0.5
Top Designator (Mech19):
  text ".Designator" at -7.498,-0.5 h1.5
3D body "3670156.stp": height 3, standoff -1, extent -7.8,-5.3 7.8,5.3

## 3670168 [mm] "Shielding Cabinet, SMT Frame Seamless, 16.8x13.5x5mm"
height 5
pads (4):
  rect 1x10 smd paste-2539.97 mask-2222: 1(-8.25,0) 1(8.25,0)
  rect 12x1 smd paste-2539.97 mask-2222: 1(0,-6.6) 1(0,6.6)
Top Layer:
  region: -9,-0.25 -9,-4.95 -9,-5.186 -8.908,-5.65 -8.727,-6.087 -8.464,-6.48 -8.13,-6.814 -7.737,-7.077 -7.3,-7.258 -6.836,-7.35 -6.6,-7.35 6.6,-7.35 6.836,-7.35 7.3,-7.258 7.737,-7.077 8.13,-6.814 8.464,-6.48 8.727,-6.087 8.908,-5.65 9,-5.186 9,-4.95 9,-0.25 7.5,-0.25 7.5,-4.95 7.496,-5.038 7.461,-5.211 7.394,-5.374 7.296,-5.521 7.171,-5.646 7.024,-5.744 6.861,-5.811 6.688,-5.846 6.6,-5.85 -6.6,-5.85 -6.688,-5.846 -6.861,-5.811 -7.024,-5.744 -7.171,-5.646 -7.296,-5.521 -7.394,-5.374 -7.461,-5.211 -7.496,-5.038 -7.5,-4.95 -7.5,-0.25
  region: -9,-1 -9,4.95 -9,5.186 -8.908,5.65 -8.727,6.087 -8.464,6.48 -8.13,6.814 -7.737,7.077 -7.3,7.258 -6.836,7.35 -6.6,7.35 6.6,7.35 6.836,7.35 7.3,7.258 7.737,7.077 8.13,6.814 8.464,6.48 8.727,6.087 8.908,5.65 9,5.186 9,4.95 9,-1 7.5,-1 7.5,4.95 7.496,5.038 7.461,5.211 7.394,5.374 7.296,5.521 7.171,5.646 7.024,5.744 6.861,5.811 6.688,5.846 6.6,5.85 -6.6,5.85 -6.688,5.846 -6.861,5.811 -7.024,5.744 -7.171,5.646 -7.296,5.521 -7.394,5.374 -7.461,5.211 -7.496,5.038 -7.5,4.95 -7.5,-1
Top Paste:
  region: -9,0.25 -9,4.95 -9,5.186 -8.908,5.65 -8.727,6.087 -8.464,6.48 -8.13,6.814 -7.737,7.077 -7.3,7.258 -6.836,7.35 -6.6,7.35 6.6,7.35 6.836,7.35 7.3,7.258 7.737,7.077 8.13,6.814 8.464,6.48 8.727,6.087 8.908,5.65 9,5.186 9,4.95 9,0.25 7.5,0.25 7.5,4.95 7.496,5.038 7.461,5.211 7.394,5.374 7.296,5.521 7.171,5.646 7.024,5.744 6.861,5.811 6.688,5.846 6.6,5.85 -6.6,5.85 -6.688,5.846 -6.861,5.811 -7.024,5.744 -7.171,5.646 -7.296,5.521 -7.394,5.374 -7.461,5.211 -7.496,5.038 -7.5,4.95 -7.5,0.25
  region: -9,-0.25 -9,-4.95 -9,-5.186 -8.908,-5.65 -8.727,-6.087 -8.464,-6.48 -8.13,-6.814 -7.737,-7.077 -7.3,-7.258 -6.836,-7.35 -6.6,-7.35 6.6,-7.35 6.836,-7.35 7.3,-7.258 7.737,-7.077 8.13,-6.814 8.464,-6.48 8.727,-6.087 8.908,-5.65 9,-5.186 9,-4.95 9,-0.25 7.5,-0.25 7.5,-4.95 7.496,-5.038 7.461,-5.211 7.394,-5.374 7.296,-5.521 7.171,-5.646 7.024,-5.744 6.861,-5.811 6.688,-5.846 6.6,-5.85 -6.6,-5.85 -6.688,-5.846 -6.861,-5.811 -7.024,-5.744 -7.171,-5.646 -7.296,-5.521 -7.394,-5.374 -7.461,-5.211 -7.496,-5.038 -7.5,-4.95 -7.5,-0.25
Assembly Notes:
  text "recommended tin paste thickness=0.5mm / customer to define the final stencil gap" at -6.1,-8.95 h0.4
Top Component Outline:
  lines w0.1: -8.4,-5 ccw(c-6.65,-5) -6.65,-6.75 6.65,-6.75 ccw(c6.65,-5) 8.4,-5 8.4,5 ccw(c6.65,5) 6.65,6.75 -6.65,6.75 ccw(c-6.65,5) -8.4,5 -8.4,-5
Top 3D Body:
  lines w0.1: -8.4,-5 ccw(c-6.65,-5) -6.65,-6.75 6.65,-6.75 ccw(c6.65,-5) 8.4,-5 8.4,5 ccw(c6.65,5) 6.65,6.75 -6.65,6.75 ccw(c-6.65,5) -8.4,5 -8.4,-5
Top Courtyard:
  lines w0.05: -9.2,-7.55 -9.2,7.55 9.2,7.55 9.2,-7.55 -9.2,-7.55
Top Component Center:
  lines w0.05: -0.5,0 0.5,0 ; 0,-0.5 0,0.5
Top Designator (Mech19):
  text ".Designator" at -7.498,-0.5 h1.5
3D body "3670168.stp": height 5, standoff 0, extent -8.4,-6.75 8.4,6.75

## 3670183 [mm] "Shielding Cabinet, SMT Frame Seamless, 18.3x10.5x3mm"
height 3
pads (4):
  rect 1x8 smd paste-2539.97 mask-2222: 1(-9,0) 1(9,0)
  rect 15x1 smd paste-2539.97 mask-2222: 1(0,-5.1) 1(0,5.1)
Top Layer:
  region: -9.75,-1 -9.75,3.95 -9.75,4.137 -9.677,4.504 -9.534,4.85 -9.326,5.161 -9.061,5.426 -8.75,5.634 -8.404,5.777 -8.037,5.85 -7.85,5.85 7.85,5.85 8.037,5.85 8.404,5.777 8.75,5.634 9.061,5.426 9.326,5.161 9.534,4.85 9.677,4.504 9.75,4.137 9.75,3.95 9.75,-1 8.25,-1 8.25,3.875 8.241,3.968 8.17,4.139 8.039,4.27 7.868,4.341 7.775,4.35 -7.775,4.35 -7.868,4.341 -8.039,4.27 -8.17,4.139 -8.241,3.968 -8.25,3.875 -8.25,-1
  region: -9.75,-0.25 -9.75,-3.95 -9.75,-4.137 -9.677,-4.504 -9.534,-4.85 -9.326,-5.161 -9.061,-5.426 -8.75,-5.634 -8.404,-5.777 -8.037,-5.85 -7.85,-5.85 7.85,-5.85 8.037,-5.85 8.404,-5.777 8.75,-5.634 9.061,-5.426 9.326,-5.161 9.534,-4.85 9.677,-4.504 9.75,-4.137 9.75,-3.95 9.75,-0.25 8.25,-0.25 8.25,-3.875 8.241,-3.968 8.17,-4.139 8.039,-4.27 7.868,-4.341 7.775,-4.35 -7.775,-4.35 -7.868,-4.341 -8.039,-4.27 -8.17,-4.139 -8.241,-3.968 -8.25,-3.875 -8.25,-0.25
Top Paste:
  region: -9.75,-0.25 -9.75,-3.95 -9.75,-4.137 -9.677,-4.504 -9.534,-4.85 -9.326,-5.161 -9.061,-5.426 -8.75,-5.634 -8.404,-5.777 -8.037,-5.85 -7.85,-5.85 7.85,-5.85 8.037,-5.85 8.404,-5.777 8.75,-5.634 9.061,-5.426 9.326,-5.161 9.534,-4.85 9.677,-4.504 9.75,-4.137 9.75,-3.95 9.75,-0.25 8.25,-0.25 8.25,-3.875 8.241,-3.968 8.17,-4.139 8.039,-4.27 7.868,-4.341 7.775,-4.35 -7.775,-4.35 -7.868,-4.341 -8.039,-4.27 -8.17,-4.139 -8.241,-3.968 -8.25,-3.875 -8.25,-0.25
  region: -9.75,0.25 -9.75,3.95 -9.75,4.137 -9.677,4.504 -9.534,4.85 -9.326,5.161 -9.061,5.426 -8.75,5.634 -8.404,5.777 -8.037,5.85 -7.85,5.85 7.85,5.85 8.037,5.85 8.404,5.777 8.75,5.634 9.061,5.426 9.326,5.161 9.534,4.85 9.677,4.504 9.75,4.137 9.75,3.95 9.75,0.25 8.25,0.25 8.25,3.875 8.241,3.968 8.17,4.139 8.039,4.27 7.868,4.341 7.775,4.35 -7.775,4.35 -7.868,4.341 -8.039,4.27 -8.17,4.139 -8.241,3.968 -8.25,3.875 -8.25,0.25
Assembly Notes:
  text "recommended tin paste thickness=0.5mm / customer to define the final stencil gap" at -5.65,-7.55 h0.4
Top Component Outline:
  lines w0.1: -9.15,-4 ccw(c-7.9,-4) -7.9,-5.25 7.9,-5.25 ccw(c7.9,-4) 9.15,-4 9.15,4 ccw(c7.9,4) 7.9,5.25 -7.9,5.25 ccw(c-7.9,4) -9.15,4 -9.15,-4
Top 3D Body:
  lines w0.1: -9.15,-4 ccw(c-7.9,-4) -7.9,-5.25 7.9,-5.25 ccw(c7.9,-4) 9.15,-4 9.15,4 ccw(c7.9,4) 7.9,5.25 -7.9,5.25 ccw(c-7.9,4) -9.15,4 -9.15,-4
Top Courtyard:
  lines w0.05: -9.95,-6.05 9.95,-6.05 9.95,6.05 -9.95,6.05 -9.95,-6.05
Top Component Center:
  lines w0.05: -0.5,0 0.5,0 ; 0,-0.5 0,0.5
Top Designator (Mech19):
  text ".Designator" at -7.498,-0.5 h1.5
3D body "3670183.stp": height 3, standoff 0, extent -9.15,-5.25 9.15,5.25

## 3670190 [mm] "Shielding Cabinet, SMT Frame Seamless, 19x13.9x2mm"
height 2
pads (4):
  rect 1x12 smd paste-2539.97 mask-2222: 1(-9.35,0) 1(9.35,0)
  rect 15x1 smd paste-2539.97 mask-2222: 1(0,-6.8) 1(0,6.8)
Top Layer:
  region: -10.1,-0.25 -10.1,-5.45 -10.1,-5.657 -10.019,-6.063 -9.861,-6.445 -9.631,-6.789 -9.339,-7.081 -8.995,-7.311 -8.613,-7.469 -8.207,-7.55 -8,-7.55 8,-7.55 8.207,-7.55 8.613,-7.469 8.995,-7.311 9.339,-7.081 9.631,-6.789 9.861,-6.445 10.019,-6.063 10.1,-5.657 10.1,-5.45 10.1,-0.25 8.6,-0.25 8.6,-5.45 8.588,-5.567 8.499,-5.783 8.333,-5.949 8.117,-6.038 8,-6.05 -8,-6.05 -8.117,-6.038 -8.333,-5.949 -8.499,-5.783 -8.588,-5.567 -8.6,-5.45 -8.6,-0.25
  region: -10.1,-1 -10.1,5.45 -10.1,5.657 -10.019,6.063 -9.861,6.445 -9.631,6.789 -9.339,7.081 -8.995,7.311 -8.613,7.469 -8.207,7.55 -8,7.55 8,7.55 8.207,7.55 8.613,7.469 8.995,7.311 9.339,7.081 9.631,6.789 9.861,6.445 10.019,6.063 10.1,5.657 10.1,5.45 10.1,-1 8.6,-1 8.6,5.45 8.588,5.567 8.499,5.783 8.333,5.949 8.117,6.038 8,6.05 -8,6.05 -8.117,6.038 -8.333,5.949 -8.499,5.783 -8.588,5.567 -8.6,5.45 -8.6,-1
Top Paste:
  region: -10.1,0.25 -10.1,5.45 -10.1,5.657 -10.019,6.063 -9.861,6.445 -9.631,6.789 -9.339,7.081 -8.995,7.311 -8.613,7.469 -8.207,7.55 -8,7.55 8,7.55 8.207,7.55 8.613,7.469 8.995,7.311 9.339,7.081 9.631,6.789 9.861,6.445 10.019,6.063 10.1,5.657 10.1,5.45 10.1,0.25 8.6,0.25 8.6,5.45 8.588,5.567 8.499,5.783 8.333,5.949 8.117,6.038 8,6.05 -8,6.05 -8.117,6.038 -8.333,5.949 -8.499,5.783 -8.588,5.567 -8.6,5.45 -8.6,0.25
  region: -10.1,-0.25 -10.1,-5.45 -10.1,-5.657 -10.019,-6.063 -9.861,-6.445 -9.631,-6.789 -9.339,-7.081 -8.995,-7.311 -8.613,-7.469 -8.207,-7.55 -8,-7.55 8,-7.55 8.207,-7.55 8.613,-7.469 8.995,-7.311 9.339,-7.081 9.631,-6.789 9.861,-6.445 10.019,-6.063 10.1,-5.657 10.1,-5.45 10.1,-0.25 8.6,-0.25 8.6,-5.45 8.588,-5.567 8.499,-5.783 8.333,-5.949 8.117,-6.038 8,-6.05 -8,-6.05 -8.117,-6.038 -8.333,-5.949 -8.499,-5.783 -8.588,-5.567 -8.6,-5.45 -8.6,-0.25
Assembly Notes:
  text "recommended tin paste thickness=0.5mm / customer to define the final stencil gap" at -5.5,-9.1 h0.4
Top Component Outline:
  lines w0.1: -9.5,-5.45 ccw(c-8,-5.45) -8,-6.95 8,-6.95 ccw(c8,-5.45) 9.5,-5.45 9.5,5.45 ccw(c8,5.45) 8,6.95 -8,6.95 ccw(c-8,5.45) -9.5,5.45 -9.5,-5.45
Top 3D Body:
  lines w0.1: -9.5,-5.45 ccw(c-8,-5.45) -8,-6.95 8,-6.95 ccw(c8,-5.45) 9.5,-5.45 9.5,5.45 ccw(c8,5.45) 8,6.95 -8,6.95 ccw(c-8,5.45) -9.5,5.45 -9.5,-5.45
Top Courtyard:
  lines w0.05: -10.3,-7.75 10.3,-7.75 10.3,7.75 -10.3,7.75 -10.3,-7.75
Top Component Center:
  lines w0.05: -0.5,0 0.5,0 ; 0,-0.5 0,0.5
Top Designator (Mech19):
  text ".Designator" at -7.498,-0.5 h1.5
3D body "3670190.stp": height 2, standoff 0, extent -9.5,-6.95 9.5,6.95

## 3670191 [mm] "Shielding Cabinet, SMT Frame Seamless, 19.1x18.2x5mm"
height 5
pads (6):
  rect 1x15 smd paste-2539.97 mask-2222: 1(-9.4,0) 1(9.4,0)
  round 1.5 hole 1.3: 1(-6,8.95) 1(6,-8.95)
  rect 15x1 smd paste-2539.97 mask-2222: 1(0,-8.95) 1(0,8.95)
Top Layer:
  region: -10.15,-0.25 -10.15,-7.3 -10.15,-7.536 -10.058,-8 -9.877,-8.437 -9.614,-8.83 -9.28,-9.164 -8.887,-9.427 -8.45,-9.608 -7.986,-9.7 -7.75,-9.7 7.75,-9.7 7.986,-9.7 8.45,-9.608 8.887,-9.427 9.28,-9.164 9.614,-8.83 9.877,-8.437 10.058,-8 10.15,-7.536 10.15,-7.3 10.15,-0.25 8.65,-0.25 8.65,-7.3 8.646,-7.388 8.611,-7.561 8.544,-7.724 8.446,-7.871 8.321,-7.996 8.174,-8.094 8.011,-8.161 7.838,-8.196 7.75,-8.2 -7.75,-8.2 -7.838,-8.196 -8.011,-8.161 -8.174,-8.094 -8.321,-7.996 -8.446,-7.871 -8.544,-7.724 -8.611,-7.561 -8.646,-7.388 -8.65,-7.3 -8.65,-0.25
  region: -10.15,-1 -10.15,7.3 -10.15,7.536 -10.058,8 -9.877,8.437 -9.614,8.83 -9.28,9.164 -8.887,9.427 -8.45,9.608 -7.986,9.7 -7.75,9.7 7.75,9.7 7.986,9.7 8.45,9.608 8.887,9.427 9.28,9.164 9.614,8.83 9.877,8.437 10.058,8 10.15,7.536 10.15,7.3 10.15,-1 8.65,-1 8.65,7.3 8.646,7.388 8.611,7.561 8.544,7.724 8.446,7.871 8.321,7.996 8.174,8.094 8.011,8.161 7.838,8.196 7.75,8.2 -7.75,8.2 -7.838,8.196 -8.011,8.161 -8.174,8.094 -8.321,7.996 -8.446,7.871 -8.544,7.724 -8.611,7.561 -8.646,7.388 -8.65,7.3 -8.65,-1
Top Paste:
  region: -10.15,0.25 -10.15,7.3 -10.15,7.536 -10.058,8 -9.877,8.437 -9.614,8.83 -9.28,9.164 -8.887,9.427 -8.45,9.608 -7.986,9.7 -7.75,9.7 7.75,9.7 7.986,9.7 8.45,9.608 8.887,9.427 9.28,9.164 9.614,8.83 9.877,8.437 10.058,8 10.15,7.536 10.15,7.3 10.15,0.25 8.65,0.25 8.65,7.3 8.646,7.388 8.611,7.561 8.544,7.724 8.446,7.871 8.321,7.996 8.174,8.094 8.011,8.161 7.838,8.196 7.75,8.2 -7.75,8.2 -7.838,8.196 -8.011,8.161 -8.174,8.094 -8.321,7.996 -8.446,7.871 -8.544,7.724 -8.611,7.561 -8.646,7.388 -8.65,7.3 -8.65,0.25
  region: -10.15,-0.25 -10.15,-7.3 -10.15,-7.536 -10.058,-8 -9.877,-8.437 -9.614,-8.83 -9.28,-9.164 -8.887,-9.427 -8.45,-9.608 -7.986,-9.7 -7.75,-9.7 7.75,-9.7 7.986,-9.7 8.45,-9.608 8.887,-9.427 9.28,-9.164 9.614,-8.83 9.877,-8.437 10.058,-8 10.15,-7.536 10.15,-7.3 10.15,-0.25 8.65,-0.25 8.65,-7.3 8.646,-7.388 8.611,-7.561 8.544,-7.724 8.446,-7.871 8.321,-7.996 8.174,-8.094 8.011,-8.161 7.838,-8.196 7.75,-8.2 -7.75,-8.2 -7.838,-8.196 -8.011,-8.161 -8.174,-8.094 -8.321,-7.996 -8.446,-7.871 -8.544,-7.724 -8.611,-7.561 -8.646,-7.388 -8.65,-7.3 -8.65,-0.25
Assembly Notes:
  text "recommended tin paste thickness=0.5mm / customer to define the final stencil gap" at -6.35,-11.3 h0.4
Top Component Outline:
  lines w0.1: -9.55,-7.35 ccw(c-7.8,-7.35) -7.8,-9.1 7.8,-9.1 ccw(c7.8,-7.35) 9.55,-7.35 9.55,7.35 ccw(c7.8,7.35) 7.8,9.1 -7.8,9.1 ccw(c-7.8,7.35) -9.55,7.35 -9.55,-7.35
Top 3D Body:
  lines w0.1: -9.55,-7.35 ccw(c-7.8,-7.35) -7.8,-9.1 7.8,-9.1 ccw(c7.8,-7.35) 9.55,-7.35 9.55,7.35 ccw(c7.8,7.35) 7.8,9.1 -7.8,9.1 ccw(c-7.8,7.35) -9.55,7.35 -9.55,-7.35
Top Courtyard:
  lines w0.05: -10.35,-9.9 -10.35,9.9 10.35,9.9 10.35,-9.9 -10.35,-9.9
Top Component Center:
  lines w0.05: -0.5,0 0.5,0 ; 0,-0.5 0,0.5
Top Designator (Mech19):
  text ".Designator" at -7.498,-0.5 h1.5
3D body "3670191.stp": height 5, standoff -1, extent -9.55,-9.1 9.55,9.1

## 3670193 [mm] "Shielding Cabinet, SMT Frame Seamless, 19.3x10.5x3mm"
height 3
pads (4):
  rect 1x8 smd paste-2539.97 mask-2222: 1(-9.5,0) 1(9.5,0)
  rect 15x1 smd paste-2539.97 mask-2222: 1(0,-5.1) 1(0,5.1)
Top Layer:
  region: -10.25,-1 -10.25,3.95 -10.25,4.137 -10.177,4.504 -10.034,4.85 -9.826,5.161 -9.561,5.426 -9.25,5.634 -8.904,5.777 -8.537,5.85 -8.35,5.85 8.35,5.85 8.537,5.85 8.904,5.777 9.25,5.634 9.561,5.426 9.826,5.161 10.034,4.85 10.177,4.504 10.25,4.137 10.25,3.95 10.25,-1 8.75,-1 8.75,3.875 8.741,3.968 8.67,4.139 8.539,4.27 8.368,4.341 8.275,4.35 -8.275,4.35 -8.368,4.341 -8.539,4.27 -8.67,4.139 -8.741,3.968 -8.75,3.875 -8.75,-1
  region: -10.25,-0.25 -10.25,-3.95 -10.25,-4.137 -10.177,-4.504 -10.034,-4.85 -9.826,-5.161 -9.561,-5.426 -9.25,-5.634 -8.904,-5.777 -8.537,-5.85 -8.35,-5.85 8.35,-5.85 8.537,-5.85 8.904,-5.777 9.25,-5.634 9.561,-5.426 9.826,-5.161 10.034,-4.85 10.177,-4.504 10.25,-4.137 10.25,-3.95 10.25,-0.25 8.75,-0.25 8.75,-3.875 8.741,-3.968 8.67,-4.139 8.539,-4.27 8.368,-4.341 8.275,-4.35 -8.275,-4.35 -8.368,-4.341 -8.539,-4.27 -8.67,-4.139 -8.741,-3.968 -8.75,-3.875 -8.75,-0.25
Top Paste:
  region: -10.25,-0.25 -10.25,-3.95 -10.25,-4.137 -10.177,-4.504 -10.034,-4.85 -9.826,-5.161 -9.561,-5.426 -9.25,-5.634 -8.904,-5.777 -8.537,-5.85 -8.35,-5.85 8.35,-5.85 8.537,-5.85 8.904,-5.777 9.25,-5.634 9.561,-5.426 9.826,-5.161 10.034,-4.85 10.177,-4.504 10.25,-4.137 10.25,-3.95 10.25,-0.25 8.75,-0.25 8.75,-3.875 8.741,-3.968 8.67,-4.139 8.539,-4.27 8.368,-4.341 8.275,-4.35 -8.275,-4.35 -8.368,-4.341 -8.539,-4.27 -8.67,-4.139 -8.741,-3.968 -8.75,-3.875 -8.75,-0.25
  region: -10.25,0.25 -10.25,3.95 -10.25,4.137 -10.177,4.504 -10.034,4.85 -9.826,5.161 -9.561,5.426 -9.25,5.634 -8.904,5.777 -8.537,5.85 -8.35,5.85 8.35,5.85 8.537,5.85 8.904,5.777 9.25,5.634 9.561,5.426 9.826,5.161 10.034,4.85 10.177,4.504 10.25,4.137 10.25,3.95 10.25,0.25 8.75,0.25 8.75,3.875 8.741,3.968 8.67,4.139 8.539,4.27 8.368,4.341 8.275,4.35 -8.275,4.35 -8.368,4.341 -8.539,4.27 -8.67,4.139 -8.741,3.968 -8.75,3.875 -8.75,0.25
Assembly Notes:
  text "recommended tin paste thickness=0.5mm / customer to define the final stencil gap" at -5.5,-7.45 h0.4
Top Component Outline:
  lines w0.1: -9.65,-4 ccw(c-8.4,-4) -8.4,-5.25 8.4,-5.25 ccw(c8.4,-4) 9.65,-4 9.65,4 ccw(c8.4,4) 8.4,5.25 -8.4,5.25 ccw(c-8.4,4) -9.65,4 -9.65,-4
Top 3D Body:
  lines w0.1: -9.65,-4 ccw(c-8.4,-4) -8.4,-5.25 8.4,-5.25 ccw(c8.4,-4) 9.65,-4 9.65,4 ccw(c8.4,4) 8.4,5.25 -8.4,5.25 ccw(c-8.4,4) -9.65,4 -9.65,-4
Top Courtyard:
  lines w0.05: -10.45,-6.05 -10.45,6.05 10.45,6.05 10.45,-6.05 -10.45,-6.05
Top Component Center:
  lines w0.05: -0.5,0 0.5,0 ; 0,-0.5 0,0.5
Top Designator (Mech19):
  text ".Designator" at -7.498,-0.5 h1.5
3D body "3670193.stp": height 3, standoff 0, extent -9.65,-5.25 9.65,5.25

## 3670206 [mm] "Shielding Cabinet, SMT Frame Seamless, 20.6x17.8x3mm"
height 3
pads (4):
  rect 1x15 smd paste-2539.97 mask-2222: 1(-10.15,0) 1(10.15,0)
  rect 15x1 smd paste-2539.97 mask-2222: 1(0,-8.75) 1(0,8.75)
Top Layer:
  region: -10.9,-1 -10.9,7.1 -10.9,7.336 -10.808,7.8 -10.627,8.237 -10.364,8.63 -10.03,8.964 -9.637,9.227 -9.2,9.408 -8.736,9.5 -8.5,9.5 8.5,9.5 8.736,9.5 9.2,9.408 9.637,9.227 10.03,8.964 10.364,8.63 10.627,8.237 10.808,7.8 10.9,7.336 10.9,7.1 10.9,-1 9.4,-1 9.4,7.1 9.396,7.188 9.361,7.361 9.294,7.524 9.196,7.671 9.071,7.796 8.924,7.894 8.761,7.961 8.588,7.996 8.5,8 -8.5,8 -8.588,7.996 -8.761,7.961 -8.924,7.894 -9.071,7.796 -9.196,7.671 -9.294,7.524 -9.361,7.361 -9.396,7.188 -9.4,7.1 -9.4,-1
  region: -10.9,-0.25 -10.9,-7.1 -10.9,-7.336 -10.808,-7.8 -10.627,-8.237 -10.364,-8.63 -10.03,-8.964 -9.637,-9.227 -9.2,-9.408 -8.736,-9.5 -8.5,-9.5 8.5,-9.5 8.736,-9.5 9.2,-9.408 9.637,-9.227 10.03,-8.964 10.364,-8.63 10.627,-8.237 10.808,-7.8 10.9,-7.336 10.9,-7.1 10.9,-0.25 9.4,-0.25 9.4,-7.1 9.396,-7.188 9.361,-7.361 9.294,-7.524 9.196,-7.671 9.071,-7.796 8.924,-7.894 8.761,-7.961 8.588,-7.996 8.5,-8 -8.5,-8 -8.588,-7.996 -8.761,-7.961 -8.924,-7.894 -9.071,-7.796 -9.196,-7.671 -9.294,-7.524 -9.361,-7.361 -9.396,-7.188 -9.4,-7.1 -9.4,-0.25
Top Paste:
  region: -10.9,-0.25 -10.9,-7.1 -10.9,-7.336 -10.808,-7.8 -10.627,-8.237 -10.364,-8.63 -10.03,-8.964 -9.637,-9.227 -9.2,-9.408 -8.736,-9.5 -8.5,-9.5 8.5,-9.5 8.736,-9.5 9.2,-9.408 9.637,-9.227 10.03,-8.964 10.364,-8.63 10.627,-8.237 10.808,-7.8 10.9,-7.336 10.9,-7.1 10.9,-0.25 9.4,-0.25 9.4,-7.1 9.396,-7.188 9.361,-7.361 9.294,-7.524 9.196,-7.671 9.071,-7.796 8.924,-7.894 8.761,-7.961 8.588,-7.996 8.5,-8 -8.5,-8 -8.588,-7.996 -8.761,-7.961 -8.924,-7.894 -9.071,-7.796 -9.196,-7.671 -9.294,-7.524 -9.361,-7.361 -9.396,-7.188 -9.4,-7.1 -9.4,-0.25
  region: -10.9,0.25 -10.9,7.1 -10.9,7.336 -10.808,7.8 -10.627,8.237 -10.364,8.63 -10.03,8.964 -9.637,9.227 -9.2,9.408 -8.736,9.5 -8.5,9.5 8.5,9.5 8.736,9.5 9.2,9.408 9.637,9.227 10.03,8.964 10.364,8.63 10.627,8.237 10.808,7.8 10.9,7.336 10.9,7.1 10.9,0.25 9.4,0.25 9.4,7.1 9.396,7.188 9.361,7.361 9.294,7.524 9.196,7.671 9.071,7.796 8.924,7.894 8.761,7.961 8.588,7.996 8.5,8 -8.5,8 -8.588,7.996 -8.761,7.961 -8.924,7.894 -9.071,7.796 -9.196,7.671 -9.294,7.524 -9.361,7.361 -9.396,7.188 -9.4,7.1 -9.4,0.25
Assembly Notes:
  text "recommended tin paste thickness=0.5mm / customer to define the final stencil gap" at -6.55,-11.2 h0.4
Top Component Outline:
  lines w0.1: -10.3,-7.15 ccw(c-8.55,-7.15) -8.55,-8.9 8.55,-8.9 ccw(c8.55,-7.15) 10.3,-7.15 10.3,7.15 ccw(c8.55,7.15) 8.55,8.9 -8.55,8.9 ccw(c-8.55,7.15) -10.3,7.15 -10.3,-7.15
Top 3D Body:
  lines w0.1: -10.3,-7.15 ccw(c-8.55,-7.15) -8.55,-8.9 8.55,-8.9 ccw(c8.55,-7.15) 10.3,-7.15 10.3,7.15 ccw(c8.55,7.15) 8.55,8.9 -8.55,8.9 ccw(c-8.55,7.15) -10.3,7.15 -10.3,-7.15
Top Courtyard:
  lines w0.05: -11.1,-9.7 11.1,-9.7 11.1,9.7 -11.1,9.7 -11.1,-9.7
Top Component Center:
  lines w0.05: -0.5,0 0.5,0 ; 0,-0.5 0,0.5
Top Designator (Mech19):
  text ".Designator" at -7.498,-0.5 h1.5
3D body "3670206.stp": height 3, standoff 0, extent -10.3,-8.9 10.3,8.9